# Altium footprint library Temperature Sensor.PcbLib: 38 footprints (part 3 of 3)
Each footprint in its own frame and in the unit in brackets; x right, y up, seen from the top. Pads: shape width x height; smd on the part's side, far side on the other; paste and mask are expansions set on the pad; w line width, h text height; cw(c..) or ccw(c..) is an arc to the next point about the centre after c.
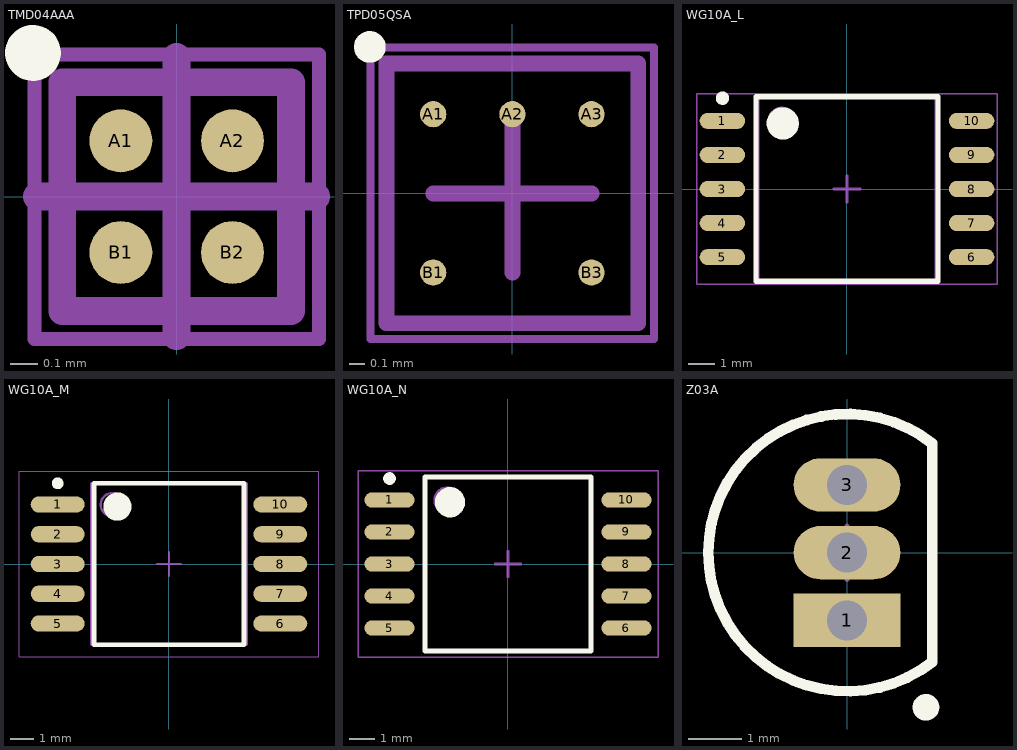
[diagram p2: the footprints below, top view; thin cyan lines are the x and y axes]

## TMD04AAA [mm] "Micro SMD, 4-Leads, Body 0.82x0.82mm, Pitch 0.4mm, NSC Recommended"
height 0.68
pads (4):
  round 0.225 smd paste-0.112 mask+0.05: A1(-0.2,0.2) A2(0.2,0.2) B1(-0.2,-0.2) B2(0.2,-0.2)
Top Overlay:
  circle w0.1: c-0.515,0.515 r0.05
Top Paste:
  circle w0.05: c-0.125,0.275 r0.025
  circle w0.05: c-0.275,0.125 r0.025
  circle w0.05: c-0.275,0.275 r0.025
  circle w0.05: c-0.125,0.125 r0.025
  circle w0.05: c0.275,0.275 r0.025
  circle w0.05: c0.125,0.125 r0.025
  circle w0.05: c0.125,0.275 r0.025
  circle w0.05: c0.275,0.125 r0.025
  circle w0.05: c-0.125,-0.125 r0.025
  circle w0.05: c-0.275,-0.275 r0.025
  circle w0.05: c-0.275,-0.125 r0.025
  circle w0.05: c-0.125,-0.275 r0.025
  circle w0.05: c0.275,-0.125 r0.025
  circle w0.05: c0.125,-0.275 r0.025
  circle w0.05: c0.125,-0.125 r0.025
  circle w0.05: c0.275,-0.275 r0.025
  rectangle: -0.275,0.075 -0.125,0.125
  region: -0.325,0.275 -0.325,0.125 -0.275,0.125 -0.275,0.275
  region: -0.125,0.325 -0.275,0.325 -0.275,0.275 -0.125,0.275
  region: -0.075,0.125 -0.075,0.275 -0.125,0.275 -0.125,0.125
  region: -0.275,0.275 -0.275,0.125 -0.125,0.125 -0.125,0.275
  rectangle: 0.125,0.075 0.275,0.125
  region: 0.075,0.275 0.075,0.125 0.125,0.125 0.125,0.275
  region: 0.275,0.325 0.125,0.325 0.125,0.275 0.275,0.275
  region: 0.325,0.125 0.325,0.275 0.275,0.275 0.275,0.125
  region: 0.125,0.275 0.125,0.125 0.275,0.125 0.275,0.275
  rectangle: -0.275,-0.325 -0.125,-0.275
  region: -0.325,-0.125 -0.325,-0.275 -0.275,-0.275 -0.275,-0.125
  region: -0.125,-0.075 -0.275,-0.075 -0.275,-0.125 -0.125,-0.125
  region: -0.075,-0.275 -0.075,-0.125 -0.125,-0.125 -0.125,-0.275
  region: -0.275,-0.125 -0.275,-0.275 -0.125,-0.275 -0.125,-0.125
  rectangle: 0.125,-0.325 0.275,-0.275
  region: 0.075,-0.125 0.075,-0.275 0.125,-0.275 0.125,-0.125
  region: 0.275,-0.075 0.125,-0.075 0.125,-0.125 0.275,-0.125
  region: 0.325,-0.275 0.325,-0.125 0.275,-0.125 0.275,-0.275
  region: 0.125,-0.125 0.125,-0.275 0.275,-0.275 0.275,-0.125
Mechanical 13:
  lines w0.1: -0.41,-0.41 -0.41,0.41 0.41,0.41 0.41,-0.41 -0.41,-0.41
Mechanical 15:
  lines w0.05: -0.51,-0.51 -0.51,0.51 0.51,0.51 0.51,-0.51 -0.51,-0.51
  lines w0.1: -0.5,0 0.5,0 ; 0,-0.5 0,0.5
3D body: height 0.68, standoff 0, extent -0.41,-0.41 0.41,0.41

## TPD05QSA [mm] "Micro SMD, 5-Leads, Body 1.59x1.64mm, Pitch 0.5mm, NSC Recommended"
height 0.58
pads (5):
  round 0.165 smd paste-0.082 mask+0.05: A1(-0.5,0.5) A2(0,0.5) A3(0.5,0.5) B1(-0.5,-0.5) B3(0.5,-0.5)
Top Overlay:
  circle w0.1: c-0.9,0.925 r0.05
Top Paste:
  circle w0.05: c0.4,-0.6 r0.025
  circle w0.05: c0.6,-0.4 r0.025
  circle w0.05: c0.4,-0.4 r0.025
  circle w0.05: c0.6,-0.6 r0.025
  circle w0.05: c-0.6,-0.6 r0.025
  circle w0.05: c-0.4,-0.4 r0.025
  circle w0.05: c-0.6,-0.4 r0.025
  circle w0.05: c-0.4,-0.6 r0.025
  circle w0.05: c0.4,0.4 r0.025
  circle w0.05: c0.6,0.6 r0.025
  circle w0.05: c0.4,0.6 r0.025
  circle w0.05: c0.6,0.4 r0.025
  circle w0.05: c-0.1,0.4 r0.025
  circle w0.05: c0.1,0.6 r0.025
  circle w0.05: c-0.1,0.6 r0.025
  circle w0.05: c0.1,0.4 r0.025
  circle w0.05: c-0.6,0.4 r0.025
  circle w0.05: c-0.4,0.6 r0.025
  circle w0.05: c-0.6,0.6 r0.025
  circle w0.05: c-0.4,0.4 r0.025
  region: 0.6,-0.6 0.4,-0.6 0.4,-0.65 0.6,-0.65
  rectangle: 0.4,-0.6 0.6,-0.4
  rectangle: 0.4,-0.4 0.6,-0.35
  region: 0.4,-0.6 0.4,-0.4 0.35,-0.4 0.35,-0.6
  region: 0.6,-0.4 0.6,-0.6 0.65,-0.6 0.65,-0.4
  region: -0.4,-0.6 -0.6,-0.6 -0.6,-0.65 -0.4,-0.65
  rectangle: -0.6,-0.6 -0.4,-0.4
  rectangle: -0.6,-0.4 -0.4,-0.35
  region: -0.6,-0.6 -0.6,-0.4 -0.65,-0.4 -0.65,-0.6
  region: -0.4,-0.4 -0.4,-0.6 -0.35,-0.6 -0.35,-0.4
  region: 0.6,0.4 0.4,0.4 0.4,0.35 0.6,0.35
  rectangle: 0.4,0.4 0.6,0.6
  rectangle: 0.4,0.6 0.6,0.65
  region: 0.4,0.4 0.4,0.6 0.35,0.6 0.35,0.4
  region: 0.6,0.6 0.6,0.4 0.65,0.4 0.65,0.6
  region: 0.1,0.4 -0.1,0.4 -0.1,0.35 0.1,0.35
  rectangle: -0.1,0.4 0.1,0.6
  rectangle: -0.1,0.6 0.1,0.65
  region: -0.1,0.4 -0.1,0.6 -0.15,0.6 -0.15,0.4
  region: 0.1,0.6 0.1,0.4 0.15,0.4 0.15,0.6
  region: -0.4,0.4 -0.6,0.4 -0.6,0.35 -0.4,0.35
  rectangle: -0.6,0.4 -0.4,0.6
  rectangle: -0.6,0.6 -0.4,0.65
  region: -0.6,0.4 -0.6,0.6 -0.65,0.6 -0.65,0.4
  region: -0.4,0.6 -0.4,0.4 -0.35,0.4 -0.35,0.6
Mechanical 13:
  lines w0.1: -0.795,-0.82 0.795,-0.82 0.795,0.82 -0.795,0.82 -0.795,-0.82
Mechanical 15:
  lines w0.05: -0.895,-0.92 0.895,-0.92 0.895,0.92 -0.895,0.92 -0.895,-0.92
  lines w0.1: -0.5,0 0.5,0 ; 0,-0.5 0,0.5
3D body: height 0.58, standoff 0, extent -0.795,-0.82 0.795,0.82

## WG10A_L [mm] "CERPACK, 10-Leads, Body 6.9x6.3mm, Pitch 1.27mm, IPC High Density"
height 2.25
pads (10):
  oval 1.7x0.6 smd: 1(-4.65,2.54) 2(-4.65,1.27) 3(-4.65,0) 4(-4.65,-1.27) 5(-4.65,-2.54) 6(4.65,-2.54) 7(4.65,-1.27) 8(4.65,0) 9(4.65,1.27) 10(4.65,2.54)
Top Overlay:
  circle w0.25: c-4.65,3.39 r0.125
  circle w0.6: c-2.4,2.45 r0.3
  lines w0.2: -3.4,-3.45 -3.4,3.45 3.4,3.45 3.4,-3.45 -3.4,-3.45
Mechanical 13:
  circle w0.1: c-2.415,2.53 r0.5
  lines w0.1: -3.315,-3.43 -3.315,3.43 3.315,3.43 3.315,-3.43 -3.315,-3.43
Mechanical 15:
  lines w0.05: -5.6,-3.55 -5.6,3.55 5.6,3.55 5.6,-3.55 -5.6,-3.55
  lines w0.1: -0.5,0 0.5,0 ; 0,-0.5 0,0.5
3D body: height 2.25, standoff 0.1, extent -3.315,-3.43 3.315,3.43

## WG10A_M [mm] "CERPACK, 10-Leads, Body 6.9x6.3mm, Pitch 1.27mm, IPC Low Density"
height 2.25
pads (10):
  oval 2.3x0.7 smd: 1(-4.75,2.54) 2(-4.75,1.27) 3(-4.75,0) 4(-4.75,-1.27) 5(-4.75,-2.54) 6(4.75,-2.54) 7(4.75,-1.27) 8(4.75,0) 9(4.75,1.27) 10(4.75,2.54)
Top Overlay:
  circle w0.25: c-4.75,3.44 r0.125
  circle w0.6: c-2.2,2.45 r0.3
  lines w0.2: -3.2,-3.45 -3.2,3.45 3.2,3.45 3.2,-3.45 -3.2,-3.45
Mechanical 13:
  circle w0.1: c-2.415,2.53 r0.5
  lines w0.1: -3.315,-3.43 -3.315,3.43 3.315,3.43 3.315,-3.43 -3.315,-3.43
Mechanical 15:
  lines w0.05: -6.4,-3.95 -6.4,3.95 6.4,3.95 6.4,-3.95 -6.4,-3.95
  lines w0.1: -0.5,0 0.5,0 ; 0,-0.5 0,0.5
3D body: height 2.25, standoff 0.1, extent -3.315,-3.43 3.315,3.43

## WG10A_N [mm] "CERPACK, 10-Leads, Body 6.9x6.3mm, Pitch 1.27mm, IPC Medium Density"
height 2.25
pads (10):
  oval 2x0.6 smd: 1(-4.7,2.54) 2(-4.7,1.27) 3(-4.7,0) 4(-4.7,-1.27) 5(-4.7,-2.54) 6(4.7,-2.54) 7(4.7,-1.27) 8(4.7,0) 9(4.7,1.27) 10(4.7,2.54)
Top Overlay:
  circle w0.25: c-4.7,3.39 r0.125
  circle w0.6: c-2.3,2.45 r0.3
  lines w0.2: -3.3,-3.45 -3.3,3.45 3.3,3.45 3.3,-3.45 -3.3,-3.45
Mechanical 13:
  circle w0.1: c-2.415,2.53 r0.5
  lines w0.1: -3.315,-3.43 -3.315,3.43 3.315,3.43 3.315,-3.43 -3.315,-3.43
Mechanical 15:
  lines w0.05: -5.95,-3.7 -5.95,3.7 5.95,3.7 5.95,-3.7 -5.95,-3.7
  lines w0.1: -0.5,0 0.5,0 ; 0,-0.5 0,0.5
3D body: height 2.25, standoff 0.1, extent -3.315,-3.43 3.315,3.43

## Z03A [mm] "TO, Flat Index; 3 In-Line, Axial Leads; Body Dia. 5mm; Leads 0.55 x 0.50 mm (max)"
height 5.2
pads (3):
  rect 2x1 hole 0.75: 1(0,-1.27)
  oval 2x1 hole 0.75: 2(0,0) 3(0,1.27)
Top Overlay:
  circle w0.25: c1.48,-2.9 r0.125
  lines w0.2: 1.601,-2.049 cw(c0,0) 1.601,2.049 1.6,-2.049
Mechanical 13:
  lines w0.1: 1.601,-2.049 cw(c0,0) 1.601,2.049 1.6,-2.049
Mechanical 15:
  lines w0.1: -0.5,0 0.5,0 ; 0,-0.5 0,0.5
3D body: height 5.2, standoff 0, extent -2.599,-2.611 1.6,2.611